# Altium integrated library TL084.IntLib: 1 symbol
Pins are listed as number, name and electrical type; pins without a type are passive.

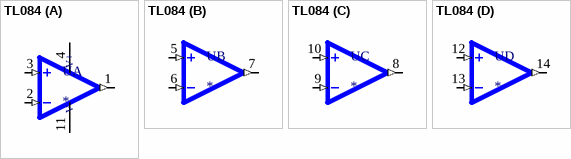
[diagram p0: symbol TL084]

## TL084
designator U
J-FET Amplifier 4 Circuit 14-SO; MP: TL084; MF: STMicroelectronics; Availability: Unavailable; Price: None; Value: *; SnapEDA_Link: https://www.snapeda.com/parts/TL084/STMicroelectronics/view-part/574439/?ref=snap; Package: TSSOP-14 STMicroelectronics
footprint SOP65P640X120-14N
part A pins: 1 OUT1 (out), 2 -IN1 (in), 3 +IN1 (in), 4 VCC+ (power), 11 VCC- (power)
part B pins: 5 +IN2 (in), 6 -IN2 (in), 7 OUT2 (out)
part C pins: 8 OUT3 (out), 9 -IN3 (in), 10 +IN3 (in)
part D pins: 12 +IN4 (in), 13 -IN4 (in), 14 OUT4 (out)
part A text: V+; V-